# Altium footprint library 64725ABPE.PcbLib: 1 footprints
Each footprint in its own frame and in the unit in brackets; x right, y up, seen from the top. Pads: shape width x height; smd on the part's side, far side on the other; paste and mask are expansions set on the pad; w line width, h text height; cw(c..) or ccw(c..) is an arc to the next point about the centre after c.
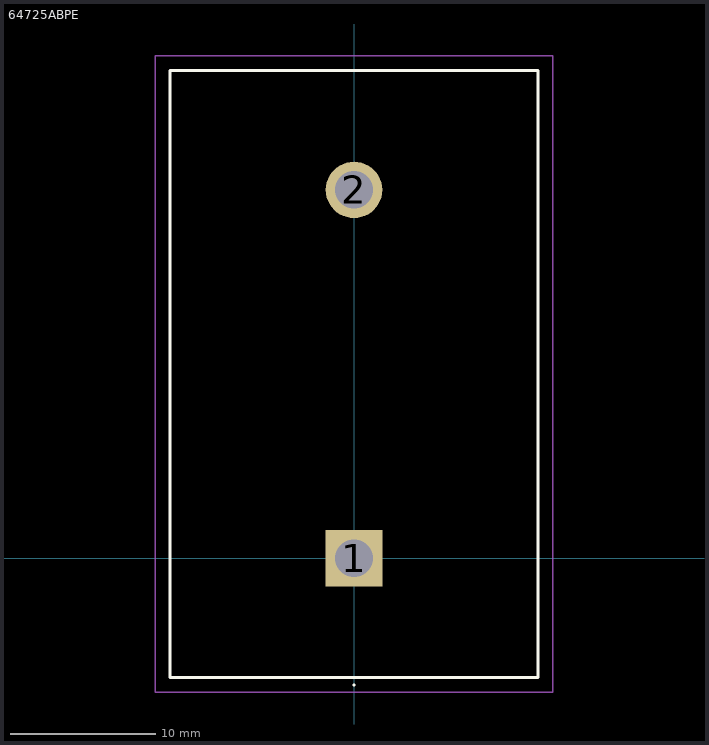
[diagram p0: the footprint, top view; thin cyan lines are the x and y axes]

## 64725ABPE [mm]
pads (2):
  rect 3.9x3.9 hole 2.6: 1(0,0)
  round 3.9 hole 2.6: 2(0,25.4)
Top Overlay:
  lines w0.1: 0,-8.8 0,-8.8 ; 0,-8.8 ccw(c0,-8.75) 0,-8.7 ; 0,-8.8 cw(c0,-8.75) 0,-8.7 ; 0,-8.7 0,-8.7
  lines w0.2: -12.7,-8.25 12.7,-8.25 12.7,33.65 -12.7,33.65 -12.7,-8.25
Mechanical 15:
  lines w0.1: -12.7,-8.25 12.7,-8.25 12.7,33.65 -12.7,33.65 -12.7,-8.25
Mechanical 20:
  lines w0.1: -13.7,-9.25 13.7,-9.25 13.7,34.65 -13.7,34.65 -13.7,-9.25